# Altium footprint library Tact-SW-lib.PcbLib: 1 footprints
Each footprint in its own frame and in the unit in brackets; x right, y up, seen from the top. Pads: shape width x height; smd on the part's side, far side on the other; paste and mask are expansions set on the pad; w line width, h text height; cw(c..) or ccw(c..) is an arc to the next point about the centre after c.
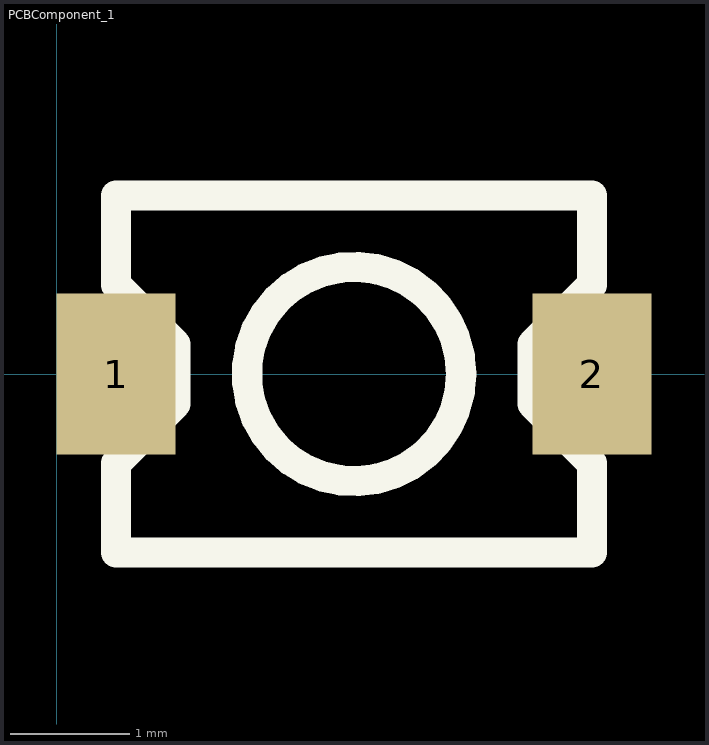
[diagram p0: the footprint, top view; thin cyan lines are the x and y axes]

## PCBComponent_1 [mm]
pads (2):
  rect 1x1.35 smd: 1(0.5,0) 2(4.5,0)
Top Overlay:
  circle w0.254: c2.5,0 r0.901
  lines w0.254: 0.5,-1.5 4.5,-1.5 4.5,-0.75 4,-0.25 4,0.25 4.5,0.75 4.5,1.5 0.5,1.5 0.5,0.75 1,0.25 1,-0.25 0.5,-0.75 0.5,-1.5